# EAGLE library part NUCLEO_144 (library pbxl)
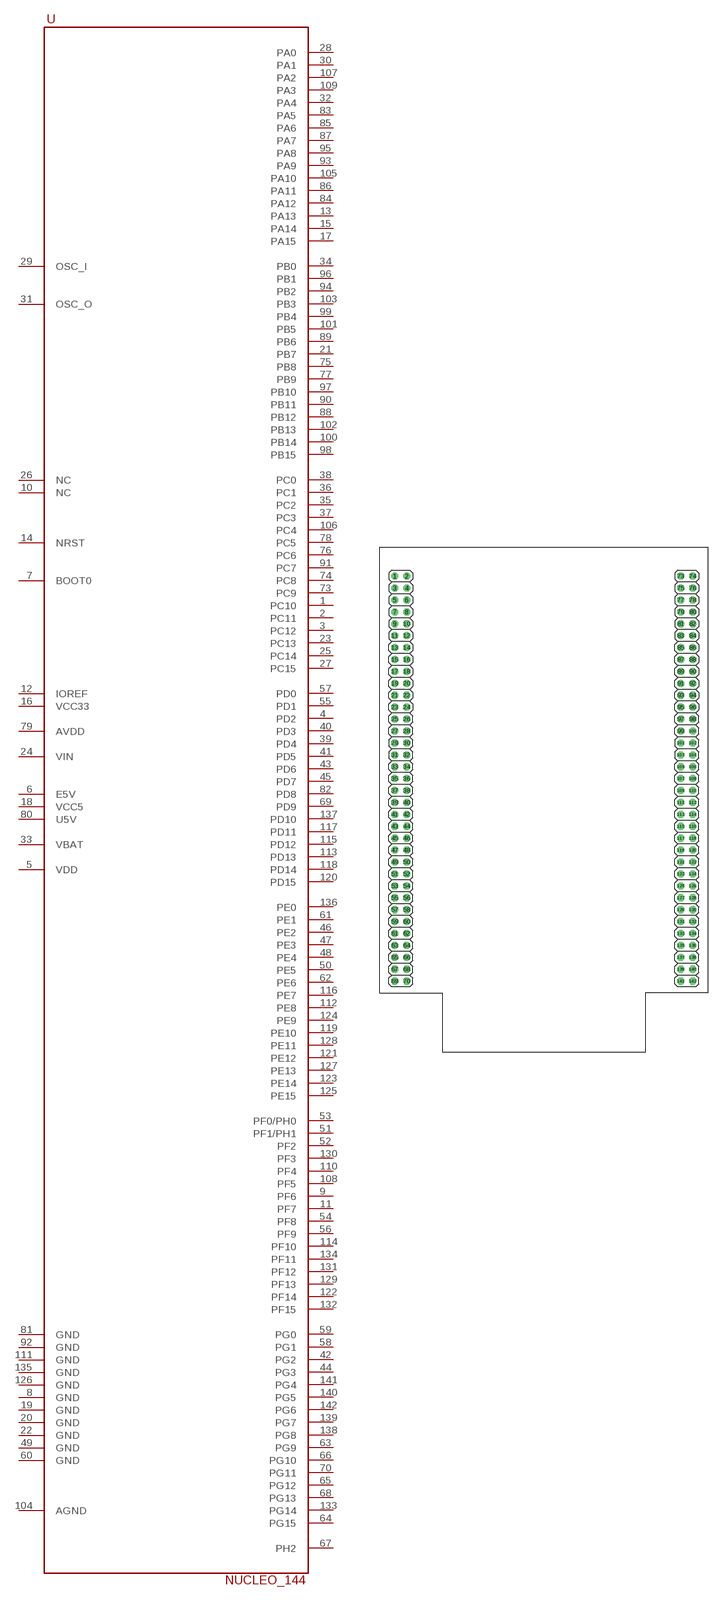
[diagram p0: symbol with the pads of NUCLEO_144; footprint NUCLEO_144]

Designator prefix -

## NUCLEO_144  [NUCLEO_144]
1  PC10
2  PC11
3  PC12
4  PD2
5  VDD
6  E5V
7  BOOT0
8  GND
9  PF6
10  NC
11  PF7
12  IOREF
13  PA13
14  NRST
15  PA14
16  VCC33
17  PA15
18  VCC5
19  GND
20  GND
21  PB7
22  GND
23  PC13
24  VIN
25  PC14
26  NC
27  PC15
28  PA0
29  OSC_I
30  PA1
31  OSC_O
32  PA4
33  VBAT
34  PB0
35  PC2
36  PC1
37  PC3
38  PC0
39  PD4
40  PD3
41  PD5
42  PG2
43  PD6
44  PG3
45  PD7
46  PE2
47  PE3
48  PE4
49  GND
50  PE5
51  PF1/PH1
52  PF2
53  PF0/PH0
54  PF8
55  PD1
56  PF9
57  PD0
58  PG1
59  PG0
60  GND
61  PE1
62  PE6
63  PG9
64  PG15
65  PG12
66  PG10
67  PH2
68  PG13
69  PD9
70  PG11
73  PC9
74  PC8
75  PB8
76  PC6
77  PB9
78  PC5
79  AVDD
80  U5V
81  GND
82  PD8
83  PA5
84  PA12
85  PA6
86  PA11
87  PA7
88  PB12
89  PB6
90  PB11
91  PC7
92  GND
93  PA9
94  PB2
95  PA8
96  PB1
97  PB10
98  PB15
99  PB4
100  PB14
101  PB5
102  PB13
103  PB3
104  AGND
105  PA10
106  PC4
107  PA2
108  PF5
109  PA3
110  PF4
111  GND
112  PE8
113  PD13
114  PF10
115  PD12
116  PE7
117  PD11
118  PD14
119  PE10
120  PD15
121  PE12
122  PF14
123  PE14
124  PE9
125  PE15
126  GND
127  PE13
128  PE11
129  PF13
130  PF3
131  PF12
132  PF15
133  PG14
134  PF11
135  GND
136  PE0
137  PD10
138  PG8
139  PG7
140  PG5
141  PG4
142  PG6

## Footprint NUCLEO_144 (pad centres in mm)
PIN HEADER
drill 1.016 octagon: 1 -34.29,40.64; 2 -31.75,40.64; 3 -34.29,38.1; 4 -31.75,38.1; 5 -34.29,35.56; 6 -31.75,35.56; 7 -34.29,33.02; 8 -31.75,33.02; 9 -34.29,30.48; 10 -31.75,30.48; 11 -34.29,27.94; 12 -31.75,27.94; 13 -34.29,25.4; 14 -31.75,25.4; 15 -34.29,22.86; 16 -31.75,22.86; 17 -34.29,20.32; 18 -31.75,20.32; 19 -34.29,17.78; 20 -31.75,17.78; 21 -34.29,15.24; 22 -31.75,15.24; 23 -34.29,12.7; 24 -31.75,12.7; 25 -34.29,10.16; 26 -31.75,10.16; 27 -34.29,7.62; 28 -31.75,7.62; 29 -34.29,5.08; 30 -31.75,5.08; 31 -34.29,2.54; 32 -31.75,2.54; 33 -34.29,0; 34 -31.75,0; 35 -34.29,-2.54; 36 -31.75,-2.54; 37 -34.29,-5.08; 38 -31.75,-5.08; 39 -34.29,-7.62; 40 -31.75,-7.62; 41 -34.29,-10.16; 42 -31.75,-10.16; 43 -34.29,-12.7; 44 -31.75,-12.7; 45 -34.29,-15.24; 46 -31.75,-15.24; 47 -34.29,-17.78; 48 -31.75,-17.78; 49 -34.29,-20.32; 50 -31.75,-20.32; 51 -34.29,-22.86; 52 -31.75,-22.86; 53 -34.29,-25.4; 54 -31.75,-25.4; 55 -34.29,-27.94; 56 -31.75,-27.94; 57 -34.29,-30.48; 58 -31.75,-30.48; 59 -34.29,-33.02; 60 -31.75,-33.02; 61 -34.29,-35.56; 62 -31.75,-35.56; 63 -34.29,-38.1; 64 -31.75,-38.1; 65 -34.29,-40.64; 66 -31.75,-40.64; 67 -34.29,-43.18; 68 -31.75,-43.18; 69 -34.29,-45.72; 70 -31.75,-45.72; 73 26.67,40.64; 74 29.21,40.64; 75 26.67,38.1; 76 29.21,38.1; 77 26.67,35.56; 78 29.21,35.56; 79 26.67,33.02; 80 29.21,33.02; 81 26.67,30.48; 82 29.21,30.48; 83 26.67,27.94; 84 29.21,27.94; 85 26.67,25.4; 86 29.21,25.4; 87 26.67,22.86; 88 29.21,22.86; 89 26.67,20.32; 90 29.21,20.32; 91 26.67,17.78; 92 29.21,17.78; 93 26.67,15.24; 94 29.21,15.24; 95 26.67,12.7; 96 29.21,12.7; 97 26.67,10.16; 98 29.21,10.16; 99 26.67,7.62; 100 29.21,7.62; 101 26.67,5.08; 102 29.21,5.08; 103 26.67,2.54; 104 29.21,2.54; 105 26.67,0; 106 29.21,0; 107 26.67,-2.54; 108 29.21,-2.54; 109 26.67,-5.08; 110 29.21,-5.08; 111 26.67,-7.62; 112 29.21,-7.62; 113 26.67,-10.16; 114 29.21,-10.16; 115 26.67,-12.7; 116 29.21,-12.7; 117 26.67,-15.24; 118 29.21,-15.24; 119 26.67,-17.78; 120 29.21,-17.78; 121 26.67,-20.32; 122 29.21,-20.32; 123 26.67,-22.86; 124 29.21,-22.86; 125 26.67,-25.4; 126 29.21,-25.4; 127 26.67,-27.94; 128 29.21,-27.94; 129 26.67,-30.48; 130 29.21,-30.48; 131 26.67,-33.02; 132 29.21,-33.02; 133 26.67,-35.56; 134 29.21,-35.56; 135 26.67,-38.1; 136 29.21,-38.1; 137 26.67,-40.64; 138 29.21,-40.64; 139 26.67,-43.18; 140 29.21,-43.18; 141 26.67,-45.72; 142 29.21,-45.72